# Altium integrated library Analog Devices Data Converters Analog-to-Digital Converters.IntLib: 2404 symbols (part 43 of 346)
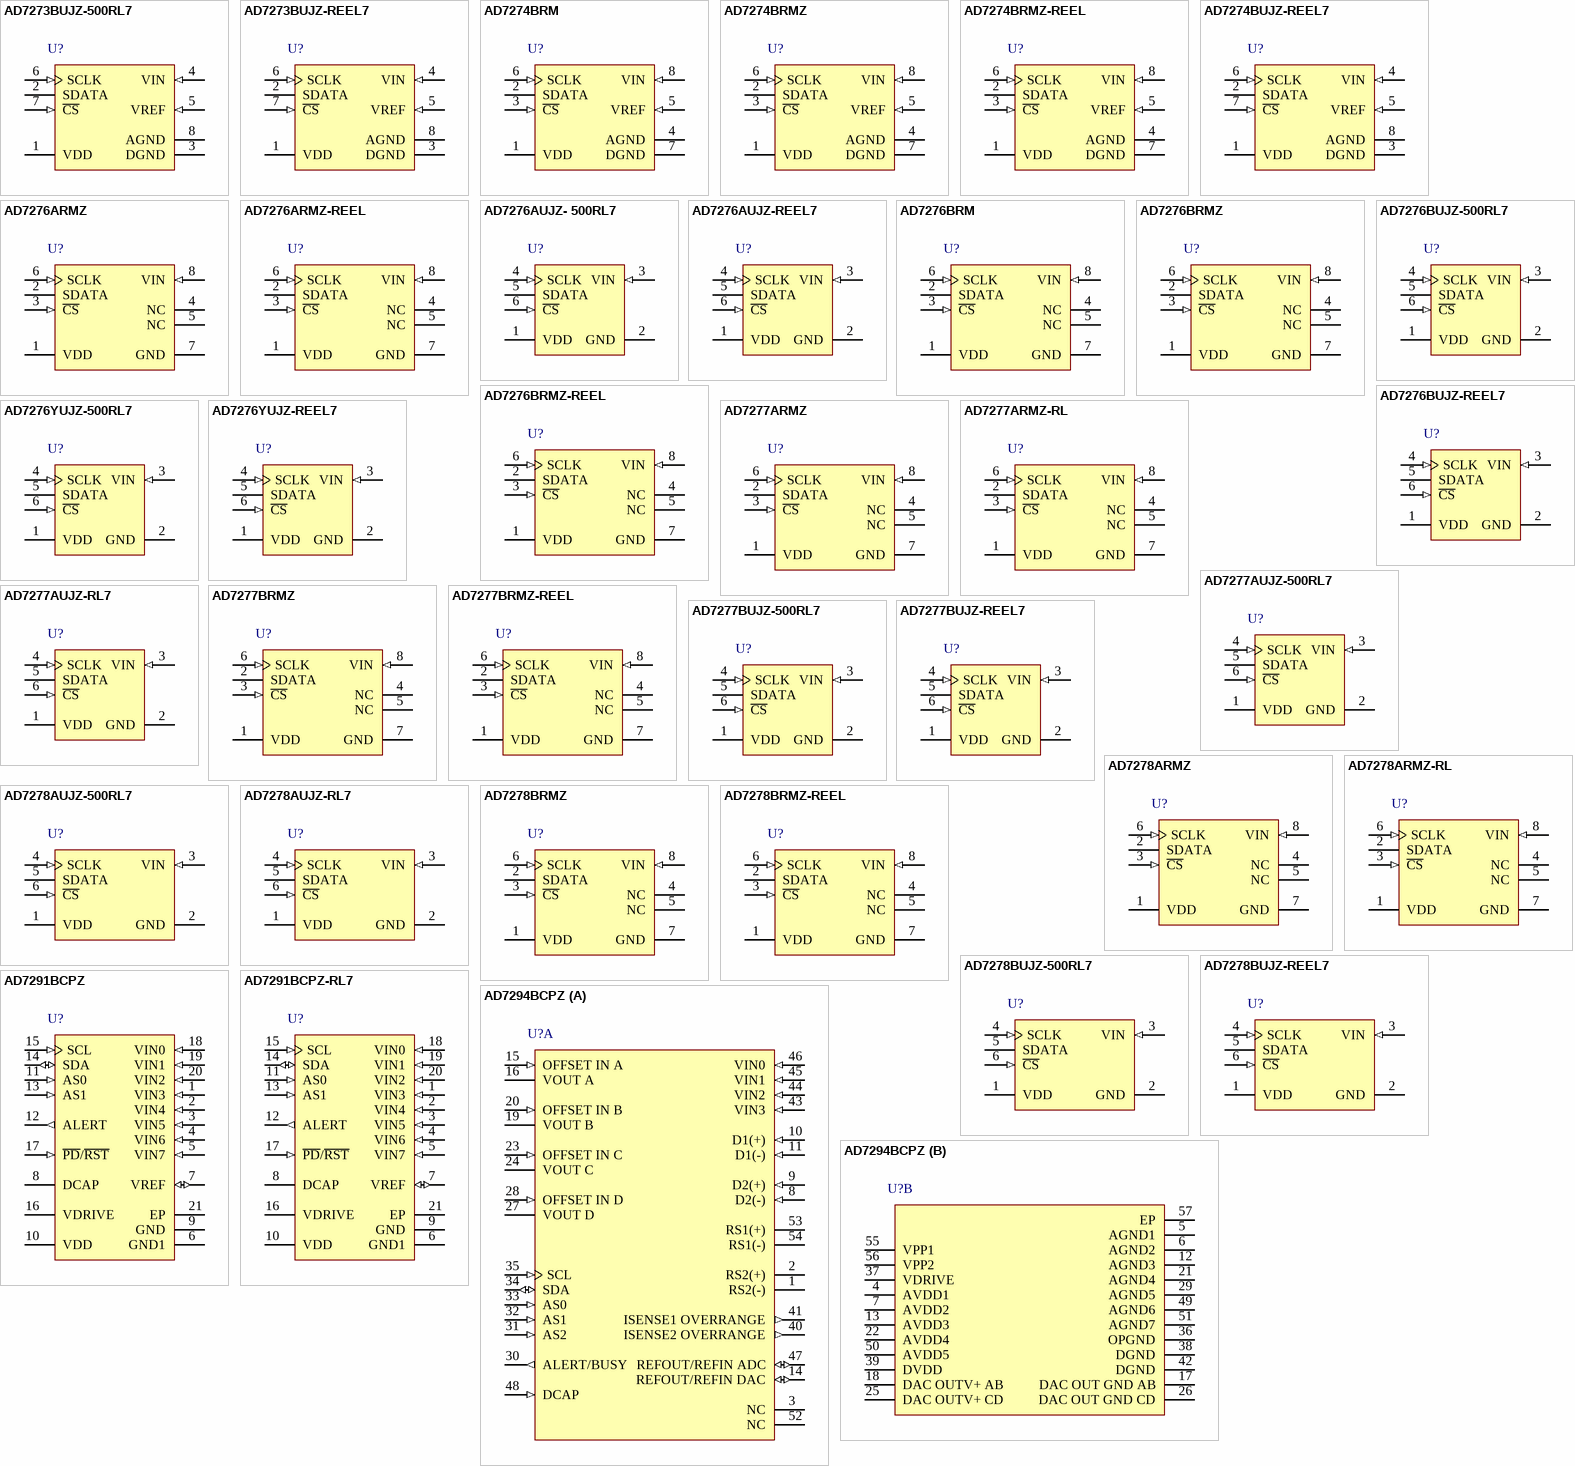
[diagram p179: symbols AD7273BUJZ-500RL7 to AD7294BCPZ]

## AD7273BUJZ-500RL7
designator U?
Single 10-Bit Analog-to-Digital Converter with Serial, SPI Interface, 3MSPS, -40 to +125 degC, UJ-8, Pb-Free, Reel; Generic Part Number: AD7273; Manufacturer: Analog Devices; PartNumber: AD7273BUJZ-500RL7; Resolution (Bits): 10; Channels: 1; Throughput Rate (SPS): 3M; Interface: Ser, SPI; DatasheetVersion: Rev.0; PackageVersion: Dec-2004; PackageReference: UJ-8; PackageDescription: 8-Lead Thin Small Outline Transistor Package [TSOT]; Supplier 1: Digi-Key; Supplier Part Number 1: AD7273BUJZ-500RL7TR-ND; Supplier 2: Digi-Key; Supplier Part Number 2: AD7273BUJZ-500RL7CT-ND; Supplier 3: Digi-Key; Supplier Part Number 3: AD7273BUJZ-500RL7DKR-ND; Supplier 4: Mouser; Supplier Part Number 4: 584-AD7273BUJZ-500R7; RoHS: Y; Packing: Reel; Mounting Technology: Surface Mount; Code_JEDEC: MO-193-BA*; ComponentLink1Description: Manufacturer URL; ComponentLink1URL: http://www.analog.com/en/index.html; ComponentLink2Description: Datasheet; ComponentLink2URL: http://www.analog.com/static/imported-files/data_sheets/AD7273_7274.pdf; ComponentLink3Description: Package Specification; ComponentLink3URL: http://www.analog.com/static/imported-files/packages/PKG_PDF/TSOT(UJ)/UJ_8.pdf; ComponentLink4Description: Product URL; ComponentLink4URL: http://www.analog.com/en/analog-to-digital-converters/ad-converters/ad7273/products/product.html
footprint UJ-8_N (SOP, 8-Leads, Body 2.9x1.6mm, Pitch 0.65mm, IPC Medium Density)
footprint UJ-8_L (SOP, 8-Leads, Body 2.9x1.6mm, Pitch 0.65mm, IPC High Density)
footprint UJ-8_M (SOP, 8-Leads, Body 2.9x1.6mm, Pitch 0.65mm, IPC Low Density)
pins: 1 VDD (power) "Power Supply Input. The VDD range for the AD7273/AD7274 is from 2.35 V to 3.6 V.", 2 SDATA (hiz) "Data Out. Logic output. The conversion result from the AD7273/AD7274 is provided on this output as a serial data stream. The bits are clocked out on the falling edge of the SCLK input. The data stream from the AD7274 (See Datasheet)", 3 DGND (power) "Digital Ground. Ground reference point for all digital circuitry on the AD7273/AD7274. The DGND and AGND voltages ideally should be at the same potential and must not be more than 0.3 V apart, even on a transient basis.", 4 VIN (in) "Analog Input. Single-ended analog input channel. The input range is 0 to VREF.", 5 VREF (in) "Voltage Reference Input. This pin becomes the reference voltage input. An external reference should be applied at this pin. The external reference input range is 1.4 V to VDD. A 10 uF capacitor should be tied between this (See Datasheet)", 6 SCLK (in) "Serial Clock. Logic input. SCLK provides the serial clock for accessing data from the part. This clock input is also used as the clock source for the conversion process of AD7273/AD7274.", 7 ~{CS} (in) "Chip Select. Active low logic input. This input provides the dual function of initiating conversion on the AD7273/AD7274 and framing the serial data transfer.", 8 AGND (power) "Analog Ground. Ground reference point for all circuitry on the AD7273/AD7274. All analog signals and any external reference signal should be referred to this AGND voltage."

## AD7273BUJZ-REEL7
designator U?
Single 10-Bit Analog-to-Digital Converter with Serial, SPI Interface, 3MSPS, -40 to +125 degC, UJ-8, Pb-Free, Reel; Generic Part Number: AD7273; Manufacturer: Analog Devices; PartNumber: AD7273BUJZ-REEL7; Resolution (Bits): 10; Channels: 1; Throughput Rate (SPS): 3M; Interface: Ser, SPI; DatasheetVersion: Rev.0; PackageVersion: Dec-2004; PackageReference: UJ-8; PackageDescription: 8-Lead Thin Small Outline Transistor Package [TSOT]; Supplier 1: Digi-Key; Supplier Part Number 1: AD7273BUJZ-REEL7TR-ND; Supplier 2: Digi-Key; Supplier Part Number 2: AD7273BUJZ-REEL7CT-ND; Supplier 3: Digi-Key; Supplier Part Number 3: AD7273BUJZ-REEL7DKR-ND; Supplier 4: Mouser; Supplier Part Number 4: 584-AD7273BUJZ-R7; RoHS: Y; Packing: Reel; Mounting Technology: Surface Mount; Code_JEDEC: MO-193-BA*; ComponentLink1Description: Manufacturer URL; ComponentLink1URL: http://www.analog.com/en/index.html; ComponentLink2Description: Datasheet; ComponentLink2URL: http://www.analog.com/static/imported-files/data_sheets/AD7273_7274.pdf; ComponentLink3Description: Package Specification; ComponentLink3URL: http://www.analog.com/static/imported-files/packages/PKG_PDF/TSOT(UJ)/UJ_8.pdf; ComponentLink4Description: Product URL; ComponentLink4URL: http://www.analog.com/en/analog-to-digital-converters/ad-converters/ad7273/products/product.html
footprint UJ-8_N (SOP, 8-Leads, Body 2.9x1.6mm, Pitch 0.65mm, IPC Medium Density)
footprint UJ-8_L (SOP, 8-Leads, Body 2.9x1.6mm, Pitch 0.65mm, IPC High Density)
footprint UJ-8_M (SOP, 8-Leads, Body 2.9x1.6mm, Pitch 0.65mm, IPC Low Density)
pins: 1 VDD (power) "Power Supply Input. The VDD range for the AD7273/AD7274 is from 2.35 V to 3.6 V.", 2 SDATA (hiz) "Data Out. Logic output. The conversion result from the AD7273/AD7274 is provided on this output as a serial data stream. The bits are clocked out on the falling edge of the SCLK input. The data stream from the AD7274 (See Datasheet)", 3 DGND (power) "Digital Ground. Ground reference point for all digital circuitry on the AD7273/AD7274. The DGND and AGND voltages ideally should be at the same potential and must not be more than 0.3 V apart, even on a transient basis.", 4 VIN (in) "Analog Input. Single-ended analog input channel. The input range is 0 to VREF.", 5 VREF (in) "Voltage Reference Input. This pin becomes the reference voltage input. An external reference should be applied at this pin. The external reference input range is 1.4 V to VDD. A 10 uF capacitor should be tied between this (See Datasheet)", 6 SCLK (in) "Serial Clock. Logic input. SCLK provides the serial clock for accessing data from the part. This clock input is also used as the clock source for the conversion process of AD7273/AD7274.", 7 ~{CS} (in) "Chip Select. Active low logic input. This input provides the dual function of initiating conversion on the AD7273/AD7274 and framing the serial data transfer.", 8 AGND (power) "Analog Ground. Ground reference point for all circuitry on the AD7273/AD7274. All analog signals and any external reference signal should be referred to this AGND voltage."

## AD7274BRM
designator U?
Single 12-Bit Analog-to-Digital Converter with Serial, SPI Interface, 3MSPS, -40 to +125 degC, RM-8, Tube; Generic Part Number: AD7274; Manufacturer: Analog Devices; PartNumber: AD7274BRM; Resolution (Bits): 12; Channels: 1; Throughput Rate (SPS): 3M; Interface: Ser, SPI; DatasheetVersion: Rev.0; PackageVersion: Aug-2005; PackageReference: RM-8; PackageDescription: 8-Lead Mini Small Outline Package [MSOP]; Supplier 1: Digi-Key; Supplier Part Number 1: AD7274BRM-ND; Supplier 2: Mouser; Supplier Part Number 2: 584-AD7274BRM; RoHS: N; Packing: Tube; Mounting Technology: Surface Mount; Code_JEDEC: MO-187-AA; ComponentLink1Description: Manufacturer URL; ComponentLink1URL: http://www.analog.com/en/index.html; ComponentLink2Description: Datasheet; ComponentLink2URL: http://www.analog.com/static/imported-files/data_sheets/AD7273_7274.pdf; ComponentLink3Description: Package Specification; ComponentLink3URL: http://www.analog.com/static/imported-files/packages/PKG_PDF/MSOP%28RM%29/RM_8.pdf; ComponentLink4Description: Product URL; ComponentLink4URL: http://www.analog.com/en/analog-to-digital-converters/ad-converters/ad7274/products/product.html
footprint RM-8_N (TSOP, 8-Leads, Body 3x3mm, Pitch 0.65mm, IPC Medium Density)
footprint RM-8_L (TSOP, 8-Leads, Body 3x3mm, Pitch 0.65mm, IPC High Density)
footprint RM-8_M (TSOP, 8-Leads, Body 3x3mm, Pitch 0.65mm, IPC Low Density)
pins: 1 VDD (power) "Power Supply Input. The VDD range for the AD7273/AD7274 is from 2.35 V to 3.6 V.", 2 SDATA (hiz) "Data Out. Logic output. The conversion result from the AD7273/AD7274 is provided on this output as a serial data stream. The bits are clocked out on the falling edge of the SCLK input. The data stream from the AD7274 (See Datasheet)", 3 ~{CS} (in) "Chip Select. Active low logic input. This input provides the dual function of initiating conversion on the AD7273/AD7274 and framing the serial data transfer.", 4 AGND (power) "Analog Ground. Ground reference point for all circuitry on the AD7273/AD7274. All analog signals and any external reference signal should be referred to this AGND voltage.", 5 VREF (in) "Voltage Reference Input. This pin becomes the reference voltage input. An external reference should be applied at this pin. The external reference input range is 1.4 V to VDD. A 10 uF capacitor should be tied between this (See Datasheet)", 6 SCLK (in) "Serial Clock. Logic input. SCLK provides the serial clock for accessing data from the part. This clock input is also used as the clock source for the conversion process of AD7273/AD7274.", 7 DGND (power) "Digital Ground. Ground reference point for all digital circuitry on the AD7273/AD7274. The DGND and AGND voltages ideally should be at the same potential and must not be more than 0.3 V apart, even on a transient basis.", 8 VIN (in) "Analog Input. Single-ended analog input channel. The input range is 0 to VREF."

## AD7274BRMZ
designator U?
Single 12-Bit Analog-to-Digital Converter with Serial, SPI Interface, 3MSPS, -40 to +125 degC, RM-8, Pb-Free, Tube; Generic Part Number: AD7274; Manufacturer: Analog Devices; PartNumber: AD7274BRMZ; Resolution (Bits): 12; Channels: 1; Throughput Rate (SPS): 3M; Interface: Ser, SPI; DatasheetVersion: Rev.0; PackageVersion: Aug-2005; PackageReference: RM-8; PackageDescription: 8-Lead Mini Small Outline Package [MSOP]; Supplier 1: Digi-Key; Supplier Part Number 1: AD7274BRMZ-ND; Supplier 2: Newark; Supplier Part Number 2: 59K4667; Supplier 3: Mouser; Supplier Part Number 3: 584-AD7274BRMZ; RoHS: Y; Packing: Tube; Mounting Technology: Surface Mount; Code_JEDEC: MO-187-AA; ComponentLink1Description: Manufacturer URL; ComponentLink1URL: http://www.analog.com/en/index.html; ComponentLink2Description: Datasheet; ComponentLink2URL: http://www.analog.com/static/imported-files/data_sheets/AD7273_7274.pdf; ComponentLink3Description: Package Specification; ComponentLink3URL: http://www.analog.com/static/imported-files/packages/PKG_PDF/MSOP%28RM%29/RM_8.pdf; ComponentLink4Description: Product URL; ComponentLink4URL: http://www.analog.com/en/analog-to-digital-converters/ad-converters/ad7274/products/product.html
footprint RM-8_N (TSOP, 8-Leads, Body 3x3mm, Pitch 0.65mm, IPC Medium Density)
footprint RM-8_L (TSOP, 8-Leads, Body 3x3mm, Pitch 0.65mm, IPC High Density)
footprint RM-8_M (TSOP, 8-Leads, Body 3x3mm, Pitch 0.65mm, IPC Low Density)
pins: 1 VDD (power) "Power Supply Input. The VDD range for the AD7273/AD7274 is from 2.35 V to 3.6 V.", 2 SDATA (hiz) "Data Out. Logic output. The conversion result from the AD7273/AD7274 is provided on this output as a serial data stream. The bits are clocked out on the falling edge of the SCLK input. The data stream from the AD7274 (See Datasheet)", 3 ~{CS} (in) "Chip Select. Active low logic input. This input provides the dual function of initiating conversion on the AD7273/AD7274 and framing the serial data transfer.", 4 AGND (power) "Analog Ground. Ground reference point for all circuitry on the AD7273/AD7274. All analog signals and any external reference signal should be referred to this AGND voltage.", 5 VREF (in) "Voltage Reference Input. This pin becomes the reference voltage input. An external reference should be applied at this pin. The external reference input range is 1.4 V to VDD. A 10 uF capacitor should be tied between this (See Datasheet)", 6 SCLK (in) "Serial Clock. Logic input. SCLK provides the serial clock for accessing data from the part. This clock input is also used as the clock source for the conversion process of AD7273/AD7274.", 7 DGND (power) "Digital Ground. Ground reference point for all digital circuitry on the AD7273/AD7274. The DGND and AGND voltages ideally should be at the same potential and must not be more than 0.3 V apart, even on a transient basis.", 8 VIN (in) "Analog Input. Single-ended analog input channel. The input range is 0 to VREF."

## AD7274BRMZ-REEL
designator U?
Single 12-Bit Analog-to-Digital Converter with Serial, SPI Interface, 3MSPS, -40 to +125 degC, RM-8, Pb-Free, Reel; Generic Part Number: AD7274; Manufacturer: Analog Devices; PartNumber: AD7274BRMZ-REEL; Resolution (Bits): 12; Channels: 1; Throughput Rate (SPS): 3M; Interface: Ser, SPI; DatasheetVersion: Rev.0; PackageVersion: Aug-2005; PackageReference: RM-8; PackageDescription: 8-Lead Mini Small Outline Package [MSOP]; Supplier 1: Digi-Key; Supplier Part Number 1: AD7274BRMZ-REEL-ND; Supplier 2: Mouser; Supplier Part Number 2: 584-AD7274BRMZ-R; RoHS: Y; Packing: Reel; Mounting Technology: Surface Mount; Code_JEDEC: MO-187-AA; ComponentLink1Description: Manufacturer URL; ComponentLink1URL: http://www.analog.com/en/index.html; ComponentLink2Description: Datasheet; ComponentLink2URL: http://www.analog.com/static/imported-files/data_sheets/AD7273_7274.pdf; ComponentLink3Description: Package Specification; ComponentLink3URL: http://www.analog.com/static/imported-files/packages/PKG_PDF/MSOP%28RM%29/RM_8.pdf; ComponentLink4Description: Product URL; ComponentLink4URL: http://www.analog.com/en/analog-to-digital-converters/ad-converters/ad7274/products/product.html
footprint RM-8_N (TSOP, 8-Leads, Body 3x3mm, Pitch 0.65mm, IPC Medium Density)
footprint RM-8_L (TSOP, 8-Leads, Body 3x3mm, Pitch 0.65mm, IPC High Density)
footprint RM-8_M (TSOP, 8-Leads, Body 3x3mm, Pitch 0.65mm, IPC Low Density)
pins: 1 VDD (power) "Power Supply Input. The VDD range for the AD7273/AD7274 is from 2.35 V to 3.6 V.", 2 SDATA (hiz) "Data Out. Logic output. The conversion result from the AD7273/AD7274 is provided on this output as a serial data stream. The bits are clocked out on the falling edge of the SCLK input. The data stream from the AD7274 (See Datasheet)", 3 ~{CS} (in) "Chip Select. Active low logic input. This input provides the dual function of initiating conversion on the AD7273/AD7274 and framing the serial data transfer.", 4 AGND (power) "Analog Ground. Ground reference point for all circuitry on the AD7273/AD7274. All analog signals and any external reference signal should be referred to this AGND voltage.", 5 VREF (in) "Voltage Reference Input. This pin becomes the reference voltage input. An external reference should be applied at this pin. The external reference input range is 1.4 V to VDD. A 10 uF capacitor should be tied between this (See Datasheet)", 6 SCLK (in) "Serial Clock. Logic input. SCLK provides the serial clock for accessing data from the part. This clock input is also used as the clock source for the conversion process of AD7273/AD7274.", 7 DGND (power) "Digital Ground. Ground reference point for all digital circuitry on the AD7273/AD7274. The DGND and AGND voltages ideally should be at the same potential and must not be more than 0.3 V apart, even on a transient basis.", 8 VIN (in) "Analog Input. Single-ended analog input channel. The input range is 0 to VREF."

## AD7274BUJZ-REEL7
designator U?
Single 12-Bit Analog-to-Digital Converter with Serial, SPI Interface, 3MSPS, -40 to +125 degC, UJ-8, Pb-Free, Reel; Generic Part Number: AD7274; Manufacturer: Analog Devices; PartNumber: AD7274BUJZ-REEL7; Resolution (Bits): 12; Channels: 1; Throughput Rate (SPS): 3M; Interface: Ser, SPI; DatasheetVersion: Rev.0; PackageVersion: Dec-2004; PackageReference: UJ-8; PackageDescription: 8-Lead Thin Small Outline Transistor Package [TSOT]; Supplier 1: Digi-Key; Supplier Part Number 1: AD7274BUJZ-REEL7TR-ND; Supplier 2: Digi-Key; Supplier Part Number 2: AD7274BUJZ-REEL7CT-ND; Supplier 3: Digi-Key; Supplier Part Number 3: AD7274BUJZ-REEL7DKR-ND; Supplier 4: Mouser; Supplier Part Number 4: 584-AD7274BUJZ-R7; RoHS: Y; Packing: Reel; Mounting Technology: Surface Mount; Code_JEDEC: MO-193-BA*; ComponentLink1Description: Manufacturer URL; ComponentLink1URL: http://www.analog.com/en/index.html; ComponentLink2Description: Datasheet; ComponentLink2URL: http://www.analog.com/static/imported-files/data_sheets/AD7273_7274.pdf; ComponentLink3Description: Package Specification; ComponentLink3URL: http://www.analog.com/static/imported-files/packages/PKG_PDF/TSOT(UJ)/UJ_8.pdf; ComponentLink4Description: Product URL; ComponentLink4URL: http://www.analog.com/en/analog-to-digital-converters/ad-converters/ad7274/products/product.html
footprint UJ-8_N (SOP, 8-Leads, Body 2.9x1.6mm, Pitch 0.65mm, IPC Medium Density)
footprint UJ-8_L (SOP, 8-Leads, Body 2.9x1.6mm, Pitch 0.65mm, IPC High Density)
footprint UJ-8_M (SOP, 8-Leads, Body 2.9x1.6mm, Pitch 0.65mm, IPC Low Density)
pins: 1 VDD (power) "Power Supply Input. The VDD range for the AD7273/AD7274 is from 2.35 V to 3.6 V.", 2 SDATA (hiz) "Data Out. Logic output. The conversion result from the AD7273/AD7274 is provided on this output as a serial data stream. The bits are clocked out on the falling edge of the SCLK input. The data stream from the AD7274 (See Datasheet)", 3 DGND (power) "Digital Ground. Ground reference point for all digital circuitry on the AD7273/AD7274. The DGND and AGND voltages ideally should be at the same potential and must not be more than 0.3 V apart, even on a transient basis.", 4 VIN (in) "Analog Input. Single-ended analog input channel. The input range is 0 to VREF.", 5 VREF (in) "Voltage Reference Input. This pin becomes the reference voltage input. An external reference should be applied at this pin. The external reference input range is 1.4 V to VDD. A 10 uF capacitor should be tied between this (See Datasheet)", 6 SCLK (in) "Serial Clock. Logic input. SCLK provides the serial clock for accessing data from the part. This clock input is also used as the clock source for the conversion process of AD7273/AD7274.", 7 ~{CS} (in) "Chip Select. Active low logic input. This input provides the dual function of initiating conversion on the AD7273/AD7274 and framing the serial data transfer.", 8 AGND (power) "Analog Ground. Ground reference point for all circuitry on the AD7273/AD7274. All analog signals and any external reference signal should be referred to this AGND voltage."

## AD7276ARMZ
designator U?
Single 12-Bit Analog-to-Digital Converter with Serial, SPI Interface, 3MSPS, -40 to +125 degC, RM-8, Pb-Free, Tube; Generic Part Number: AD7276; Manufacturer: Analog Devices; PartNumber: AD7276ARMZ; Resolution (Bits): 12; Channels: 1; Throughput Rate (SPS): 3M; Interface: Ser, SPI; DatasheetVersion: Rev.C; PackageVersion: Aug-2005; PackageReference: RM-8; PackageDescription: 8-Lead Mini Small Outline Package [MSOP]; Supplier 1: Digi-Key; Supplier Part Number 1: AD7276ARMZ-ND; Supplier 2: Mouser; Supplier Part Number 2: 584-AD7276ARMZ; RoHS: Y; Packing: Tube; Mounting Technology: Surface Mount; Code_JEDEC: MO-187-AA; ComponentLink1Description: Manufacturer URL; ComponentLink1URL: http://www.analog.com/en/index.html; ComponentLink2Description: Datasheet; ComponentLink2URL: http://www.analog.com/static/imported-files/data_sheets/AD7276_7277_7278.pdf; ComponentLink3Description: Package Specification; ComponentLink3URL: http://www.analog.com/static/imported-files/packages/PKG_PDF/MSOP%28RM%29/RM_8.pdf; ComponentLink4Description: Product URL; ComponentLink4URL: http://www.analog.com/en/analog-to-digital-converters/ad-converters/ad7276/products/product.html
footprint RM-8_N (TSOP, 8-Leads, Body 3x3mm, Pitch 0.65mm, IPC Medium Density)
footprint RM-8_L (TSOP, 8-Leads, Body 3x3mm, Pitch 0.65mm, IPC High Density)
footprint RM-8_M (TSOP, 8-Leads, Body 3x3mm, Pitch 0.65mm, IPC Low Density)
pins: 1 VDD (power) "Power Supply Input. The VDD range for the AD7276/AD7277/AD7278 is 2.35 V to 3.6 V.", 2 SDATA (hiz) "Data Out. Logic output. The conversion result from the AD7276/AD7277/AD7278 is provided on this output as a serial data stream. The bits are clocked out on the falling edge of the SCLK input. The data stream from the AD7276 (See Datasheet)", 3 ~{CS} (in) "Chip Select. Active low logic input. This input provides the dual function of initiating conversion on the AD7276/AD7277/AD7278 and framing the serial data transfer.", 4 NC "No Connect.", 5 NC "No Connect.", 6 SCLK (in) "Serial Clock. Logic input. SCLK provides the serial clock for accessing data from the part. This clock input is also used as the clock source for the conversion process of the AD7276/AD7277/AD7278.", 7 GND (power) "Analog Ground. Ground reference point for all circuitry on the AD7276/AD7277/AD7278. All analog input signals should be referred to this GND voltage.", 8 VIN (in) "Analog Input. Single-ended analog input channel. The input range is 0 V to VDD."

## AD7276ARMZ-REEL
designator U?
Single 12-Bit Analog-to-Digital Converter with Serial, SPI Interface, 3MSPS, -40 to +125 degC, RM-8, Pb-Free, Reel; Generic Part Number: AD7276; Manufacturer: Analog Devices; PartNumber: AD7276ARMZ-REEL; Resolution (Bits): 12; Channels: 1; Throughput Rate (SPS): 3M; Interface: Ser, SPI; DatasheetVersion: Rev.C; PackageVersion: Aug-2005; PackageReference: RM-8; PackageDescription: 8-Lead Mini Small Outline Package [MSOP]; Supplier 1: Digi-Key; Supplier Part Number 1: AD7276ARMZ-REEL-ND; Supplier 2: Mouser; Supplier Part Number 2: 584-AD7276ARMZ-R; RoHS: Y; Packing: Reel; Mounting Technology: Surface Mount; Code_JEDEC: MO-187-AA; ComponentLink1Description: Manufacturer URL; ComponentLink1URL: http://www.analog.com/en/index.html; ComponentLink2Description: Datasheet; ComponentLink2URL: http://www.analog.com/static/imported-files/data_sheets/AD7276_7277_7278.pdf; ComponentLink3Description: Package Specification; ComponentLink3URL: http://www.analog.com/static/imported-files/packages/PKG_PDF/MSOP%28RM%29/RM_8.pdf; ComponentLink4Description: Product URL; ComponentLink4URL: http://www.analog.com/en/analog-to-digital-converters/ad-converters/ad7276/products/product.html
footprint RM-8_N (TSOP, 8-Leads, Body 3x3mm, Pitch 0.65mm, IPC Medium Density)
footprint RM-8_L (TSOP, 8-Leads, Body 3x3mm, Pitch 0.65mm, IPC High Density)
footprint RM-8_M (TSOP, 8-Leads, Body 3x3mm, Pitch 0.65mm, IPC Low Density)
pins: 1 VDD (power) "Power Supply Input. The VDD range for the AD7276/AD7277/AD7278 is 2.35 V to 3.6 V.", 2 SDATA (hiz) "Data Out. Logic output. The conversion result from the AD7276/AD7277/AD7278 is provided on this output as a serial data stream. The bits are clocked out on the falling edge of the SCLK input. The data stream from the AD7276 (See Datasheet)", 3 ~{CS} (in) "Chip Select. Active low logic input. This input provides the dual function of initiating conversion on the AD7276/AD7277/AD7278 and framing the serial data transfer.", 4 NC "No Connect.", 5 NC "No Connect.", 6 SCLK (in) "Serial Clock. Logic input. SCLK provides the serial clock for accessing data from the part. This clock input is also used as the clock source for the conversion process of the AD7276/AD7277/AD7278.", 7 GND (power) "Analog Ground. Ground reference point for all circuitry on the AD7276/AD7277/AD7278. All analog input signals should be referred to this GND voltage.", 8 VIN (in) "Analog Input. Single-ended analog input channel. The input range is 0 V to VDD."

## AD7276AUJZ- 500RL7
designator U?
Single 12-Bit Analog-to-Digital Converter with Serial, SPI Interface, 3MSPS, -40 to +125 degC, UJ-6, Pb-Free, Reel; Generic Part Number: AD7276; Manufacturer: Analog Devices; PartNumber: AD7276AUJZ- 500RL7; Resolution (Bits): 12; Channels: 1; Throughput Rate (SPS): 3M; Interface: Ser, SPI; DatasheetVersion: Rev.C; PackageVersion: Dec-2004; PackageReference: UJ-6; PackageDescription: 6-Lead Thin Small Outline Transistor Package [TSOT]; RoHS: Y; Packing: Reel; Mounting Technology: Surface Mount; Code_JEDEC: MO-193-AA*; ComponentLink1Description: Manufacturer URL; ComponentLink1URL: http://www.analog.com/en/index.html; ComponentLink2Description: Datasheet; ComponentLink2URL: http://www.analog.com/static/imported-files/data_sheets/AD7276_7277_7278.pdf; ComponentLink3Description: Package Specification; ComponentLink3URL: http://www.analog.com/static/imported-files/packages/PKG_PDF/TSOT(UJ)/UJ_6.pdf; ComponentLink4Description: Product URL; ComponentLink4URL: http://www.analog.com/en/analog-to-digital-converters/ad-converters/ad7276/products/product.html
footprint UJ-6_N (SOT23, 6-Leads, Body 2.9x1.6mm, Pitch 0.95mm, Lead Span 2.8mm, IPC Medium Density)
footprint UJ-6_L (SOT23, 6-Leads, Body 2.9x1.6mm, Pitch 0.95mm, Lead Span 2.8mm, IPC High Density)
footprint UJ-6_M (SOT23, 6-Leads, Body 2.9x1.6mm, Pitch 0.95mm, Lead Span 2.8mm, IPC Low Density)
pins: 1 VDD (power) "Power Supply Input. The VDD range for the AD7276/AD7277/AD7278 is 2.35 V to 3.6 V.", 2 GND (power) "Analog Ground. Ground reference point for all circuitry on the AD7276/AD7277/AD7278. All analog input signals should be referred to this GND voltage.", 3 VIN (in) "Analog Input. Single-ended analog input channel. The input range is 0 V to VDD.", 4 SCLK (in) "Serial Clock. Logic input. SCLK provides the serial clock for accessing data from the part. This clock input is also used as the clock source for the conversion process of the AD7276/AD7277/AD7278.", 5 SDATA (hiz) "Data Out. Logic output. The conversion result from the AD7276/AD7277/AD7278 is provided on this output as a serial data stream. The bits are clocked out on the falling edge of the SCLK input. The data stream from the AD7276 (See Datasheet)", 6 ~{CS} (in) "Chip Select. Active low logic input. This input provides the dual function of initiating conversion on the AD7276/AD7277/AD7278 and framing the serial data transfer."

## AD7276AUJZ-REEL7
designator U?
Single 12-Bit Analog-to-Digital Converter with Serial, SPI Interface, 3MSPS, -40 to +125 degC, UJ-6, Pb-Free, Reel; Generic Part Number: AD7276; Manufacturer: Analog Devices; PartNumber: AD7276AUJZ-REEL7; Resolution (Bits): 12; Channels: 1; Throughput Rate (SPS): 3M; Interface: Ser, SPI; DatasheetVersion: Rev.C; PackageVersion: Dec-2004; PackageReference: UJ-6; PackageDescription: 6-Lead Thin Small Outline Transistor Package [TSOT]; Supplier 1: Digi-Key; Supplier Part Number 1: AD7276AUJZ-REEL7TR-ND; Supplier 2: Digi-Key; Supplier Part Number 2: AD7276AUJZ-REEL7CT-ND; Supplier 3: Digi-Key; Supplier Part Number 3: AD7276AUJZ-REEL7DKR-ND; Supplier 4: Newark; Supplier Part Number 4: 63R9820; Supplier 5: Mouser; Supplier Part Number 5: 584-AD7276AUJZ-R7; RoHS: Y; Packing: Reel; Mounting Technology: Surface Mount; Code_JEDEC: MO-193-AA*; ComponentLink1Description: Manufacturer URL; ComponentLink1URL: http://www.analog.com/en/index.html; ComponentLink2Description: Datasheet; ComponentLink2URL: http://www.analog.com/static/imported-files/data_sheets/AD7276_7277_7278.pdf; ComponentLink3Description: Package Specification; ComponentLink3URL: http://www.analog.com/static/imported-files/packages/PKG_PDF/TSOT(UJ)/UJ_6.pdf; ComponentLink4Description: Product URL; ComponentLink4URL: http://www.analog.com/en/analog-to-digital-converters/ad-converters/ad7276/products/product.html
footprint UJ-6_N (SOT23, 6-Leads, Body 2.9x1.6mm, Pitch 0.95mm, Lead Span 2.8mm, IPC Medium Density)
footprint UJ-6_L (SOT23, 6-Leads, Body 2.9x1.6mm, Pitch 0.95mm, Lead Span 2.8mm, IPC High Density)
footprint UJ-6_M (SOT23, 6-Leads, Body 2.9x1.6mm, Pitch 0.95mm, Lead Span 2.8mm, IPC Low Density)
pins: 1 VDD (power) "Power Supply Input. The VDD range for the AD7276/AD7277/AD7278 is 2.35 V to 3.6 V.", 2 GND (power) "Analog Ground. Ground reference point for all circuitry on the AD7276/AD7277/AD7278. All analog input signals should be referred to this GND voltage.", 3 VIN (in) "Analog Input. Single-ended analog input channel. The input range is 0 V to VDD.", 4 SCLK (in) "Serial Clock. Logic input. SCLK provides the serial clock for accessing data from the part. This clock input is also used as the clock source for the conversion process of the AD7276/AD7277/AD7278.", 5 SDATA (hiz) "Data Out. Logic output. The conversion result from the AD7276/AD7277/AD7278 is provided on this output as a serial data stream. The bits are clocked out on the falling edge of the SCLK input. The data stream from the AD7276 (See Datasheet)", 6 ~{CS} (in) "Chip Select. Active low logic input. This input provides the dual function of initiating conversion on the AD7276/AD7277/AD7278 and framing the serial data transfer."

## AD7276BRM
designator U?
Single 12-Bit Analog-to-Digital Converter with Serial, SPI Interface, 3MSPS, -40 to +125 degC, RM-8, Tube; Generic Part Number: AD7276; Manufacturer: Analog Devices; PartNumber: AD7276BRM; Resolution (Bits): 12; Channels: 1; Throughput Rate (SPS): 3M; Interface: Ser, SPI; DatasheetVersion: Rev.C; PackageVersion: Aug-2005; PackageReference: RM-8; PackageDescription: 8-Lead Mini Small Outline Package [MSOP]; Supplier 1: Digi-Key; Supplier Part Number 1: AD7276BRM-ND; Supplier 2: Mouser; Supplier Part Number 2: 584-AD7276BRM; RoHS: N; Packing: Tube; Mounting Technology: Surface Mount; Code_JEDEC: MO-187-AA; ComponentLink1Description: Manufacturer URL; ComponentLink1URL: http://www.analog.com/en/index.html; ComponentLink2Description: Datasheet; ComponentLink2URL: http://www.analog.com/static/imported-files/data_sheets/AD7276_7277_7278.pdf; ComponentLink3Description: Package Specification; ComponentLink3URL: http://www.analog.com/static/imported-files/packages/PKG_PDF/MSOP%28RM%29/RM_8.pdf; ComponentLink4Description: Product URL; ComponentLink4URL: http://www.analog.com/en/analog-to-digital-converters/ad-converters/ad7276/products/product.html
footprint RM-8_N (TSOP, 8-Leads, Body 3x3mm, Pitch 0.65mm, IPC Medium Density)
footprint RM-8_L (TSOP, 8-Leads, Body 3x3mm, Pitch 0.65mm, IPC High Density)
footprint RM-8_M (TSOP, 8-Leads, Body 3x3mm, Pitch 0.65mm, IPC Low Density)
pins: 1 VDD (power) "Power Supply Input. The VDD range for the AD7276/AD7277/AD7278 is 2.35 V to 3.6 V.", 2 SDATA (hiz) "Data Out. Logic output. The conversion result from the AD7276/AD7277/AD7278 is provided on this output as a serial data stream. The bits are clocked out on the falling edge of the SCLK input. The data stream from the AD7276 (See Datasheet)", 3 ~{CS} (in) "Chip Select. Active low logic input. This input provides the dual function of initiating conversion on the AD7276/AD7277/AD7278 and framing the serial data transfer.", 4 NC "No Connect.", 5 NC "No Connect.", 6 SCLK (in) "Serial Clock. Logic input. SCLK provides the serial clock for accessing data from the part. This clock input is also used as the clock source for the conversion process of the AD7276/AD7277/AD7278.", 7 GND (power) "Analog Ground. Ground reference point for all circuitry on the AD7276/AD7277/AD7278. All analog input signals should be referred to this GND voltage.", 8 VIN (in) "Analog Input. Single-ended analog input channel. The input range is 0 V to VDD."

## AD7276BRMZ
designator U?
Single 12-Bit Analog-to-Digital Converter with Serial, SPI Interface, 3MSPS, -40 to +125 degC, RM-8, Pb-Free, Tube; Generic Part Number: AD7276; Manufacturer: Analog Devices; PartNumber: AD7276BRMZ; Resolution (Bits): 12; Channels: 1; Throughput Rate (SPS): 3M; Interface: Ser, SPI; DatasheetVersion: Rev.C; PackageVersion: Aug-2005; PackageReference: RM-8; PackageDescription: 8-Lead Mini Small Outline Package [MSOP]; Supplier 1: Digi-Key; Supplier Part Number 1: AD7276BRMZ-ND; Supplier 2: Farnell; Supplier Part Number 2: 1117902; Supplier 3: Newark; Supplier Part Number 3: 59K4672; Supplier 4: Mouser; Supplier Part Number 4: 584-AD7276BRMZ; RoHS: Y; Packing: Tube; Mounting Technology: Surface Mount; Code_JEDEC: MO-187-AA; ComponentLink1Description: Manufacturer URL; ComponentLink1URL: http://www.analog.com/en/index.html; ComponentLink2Description: Datasheet; ComponentLink2URL: http://www.analog.com/static/imported-files/data_sheets/AD7276_7277_7278.pdf; ComponentLink3Description: Package Specification; ComponentLink3URL: http://www.analog.com/static/imported-files/packages/PKG_PDF/MSOP%28RM%29/RM_8.pdf; ComponentLink4Description: Product URL; ComponentLink4URL: http://www.analog.com/en/analog-to-digital-converters/ad-converters/ad7276/products/product.html
footprint RM-8_N (TSOP, 8-Leads, Body 3x3mm, Pitch 0.65mm, IPC Medium Density)
footprint RM-8_L (TSOP, 8-Leads, Body 3x3mm, Pitch 0.65mm, IPC High Density)
footprint RM-8_M (TSOP, 8-Leads, Body 3x3mm, Pitch 0.65mm, IPC Low Density)
pins: 1 VDD (power) "Power Supply Input. The VDD range for the AD7276/AD7277/AD7278 is 2.35 V to 3.6 V.", 2 SDATA (hiz) "Data Out. Logic output. The conversion result from the AD7276/AD7277/AD7278 is provided on this output as a serial data stream. The bits are clocked out on the falling edge of the SCLK input. The data stream from the AD7276 (See Datasheet)", 3 ~{CS} (in) "Chip Select. Active low logic input. This input provides the dual function of initiating conversion on the AD7276/AD7277/AD7278 and framing the serial data transfer.", 4 NC "No Connect.", 5 NC "No Connect.", 6 SCLK (in) "Serial Clock. Logic input. SCLK provides the serial clock for accessing data from the part. This clock input is also used as the clock source for the conversion process of the AD7276/AD7277/AD7278.", 7 GND (power) "Analog Ground. Ground reference point for all circuitry on the AD7276/AD7277/AD7278. All analog input signals should be referred to this GND voltage.", 8 VIN (in) "Analog Input. Single-ended analog input channel. The input range is 0 V to VDD."

## AD7276BRMZ-REEL
designator U?
Single 12-Bit Analog-to-Digital Converter with Serial, SPI Interface, 3MSPS, -40 to +125 degC, RM-8, Pb-Free, Reel; Generic Part Number: AD7276; Manufacturer: Analog Devices; PartNumber: AD7276BRMZ-REEL; Resolution (Bits): 12; Channels: 1; Throughput Rate (SPS): 3M; Interface: Ser, SPI; DatasheetVersion: Rev.C; PackageVersion: Aug-2005; PackageReference: RM-8; PackageDescription: 8-Lead Mini Small Outline Package [MSOP]; Supplier 1: Digi-Key; Supplier Part Number 1: AD7276BRMZ-REEL-ND; Supplier 2: Mouser; Supplier Part Number 2: 584-AD7276BRMZ-R; RoHS: Y; Packing: Reel; Mounting Technology: Surface Mount; Code_JEDEC: MO-187-AA; ComponentLink1Description: Manufacturer URL; ComponentLink1URL: http://www.analog.com/en/index.html; ComponentLink2Description: Datasheet; ComponentLink2URL: http://www.analog.com/static/imported-files/data_sheets/AD7276_7277_7278.pdf; ComponentLink3Description: Package Specification; ComponentLink3URL: http://www.analog.com/static/imported-files/packages/PKG_PDF/MSOP%28RM%29/RM_8.pdf; ComponentLink4Description: Product URL; ComponentLink4URL: http://www.analog.com/en/analog-to-digital-converters/ad-converters/ad7276/products/product.html
footprint RM-8_N (TSOP, 8-Leads, Body 3x3mm, Pitch 0.65mm, IPC Medium Density)
footprint RM-8_L (TSOP, 8-Leads, Body 3x3mm, Pitch 0.65mm, IPC High Density)
footprint RM-8_M (TSOP, 8-Leads, Body 3x3mm, Pitch 0.65mm, IPC Low Density)
pins: 1 VDD (power) "Power Supply Input. The VDD range for the AD7276/AD7277/AD7278 is 2.35 V to 3.6 V.", 2 SDATA (hiz) "Data Out. Logic output. The conversion result from the AD7276/AD7277/AD7278 is provided on this output as a serial data stream. The bits are clocked out on the falling edge of the SCLK input. The data stream from the AD7276 (See Datasheet)", 3 ~{CS} (in) "Chip Select. Active low logic input. This input provides the dual function of initiating conversion on the AD7276/AD7277/AD7278 and framing the serial data transfer.", 4 NC "No Connect.", 5 NC "No Connect.", 6 SCLK (in) "Serial Clock. Logic input. SCLK provides the serial clock for accessing data from the part. This clock input is also used as the clock source for the conversion process of the AD7276/AD7277/AD7278.", 7 GND (power) "Analog Ground. Ground reference point for all circuitry on the AD7276/AD7277/AD7278. All analog input signals should be referred to this GND voltage.", 8 VIN (in) "Analog Input. Single-ended analog input channel. The input range is 0 V to VDD."

## AD7276BUJZ-500RL7
designator U?
Single 12-Bit Analog-to-Digital Converter with Serial, SPI Interface, 3MSPS, -40 to +125 degC, UJ-6, Pb-Free, Reel; Generic Part Number: AD7276; Manufacturer: Analog Devices; PartNumber: AD7276BUJZ-500RL7; Resolution (Bits): 12; Channels: 1; Throughput Rate (SPS): 3M; Interface: Ser, SPI; DatasheetVersion: Rev.C; PackageVersion: Dec-2004; PackageReference: UJ-6; PackageDescription: 6-Lead Thin Small Outline Transistor Package [TSOT]; Supplier 1: Digi-Key; Supplier Part Number 1: AD7276BUJZ-500RL7TR-ND; Supplier 2: Digi-Key; Supplier Part Number 2: AD7276BUJZ-500RL7CT-ND; Supplier 3: Digi-Key; Supplier Part Number 3: AD7276BUJZ-500RL7DKR-ND; Supplier 4: Newark; Supplier Part Number 4: 59K4676; Supplier 5: Mouser; Supplier Part Number 5: 584-AD7276BUJZ-500R7; RoHS: Y; Packing: Reel; Mounting Technology: Surface Mount; Code_JEDEC: MO-193-AA*; ComponentLink1Description: Manufacturer URL; ComponentLink1URL: http://www.analog.com/en/index.html; ComponentLink2Description: Datasheet; ComponentLink2URL: http://www.analog.com/static/imported-files/data_sheets/AD7276_7277_7278.pdf; ComponentLink3Description: Package Specification; ComponentLink3URL: http://www.analog.com/static/imported-files/packages/PKG_PDF/TSOT(UJ)/UJ_6.pdf; ComponentLink4Description: Product URL; ComponentLink4URL: http://www.analog.com/en/analog-to-digital-converters/ad-converters/ad7276/products/product.html
footprint UJ-6_N (SOT23, 6-Leads, Body 2.9x1.6mm, Pitch 0.95mm, Lead Span 2.8mm, IPC Medium Density)
footprint UJ-6_L (SOT23, 6-Leads, Body 2.9x1.6mm, Pitch 0.95mm, Lead Span 2.8mm, IPC High Density)
footprint UJ-6_M (SOT23, 6-Leads, Body 2.9x1.6mm, Pitch 0.95mm, Lead Span 2.8mm, IPC Low Density)
pins: 1 VDD (power) "Power Supply Input. The VDD range for the AD7276/AD7277/AD7278 is 2.35 V to 3.6 V.", 2 GND (power) "Analog Ground. Ground reference point for all circuitry on the AD7276/AD7277/AD7278. All analog input signals should be referred to this GND voltage.", 3 VIN (in) "Analog Input. Single-ended analog input channel. The input range is 0 V to VDD.", 4 SCLK (in) "Serial Clock. Logic input. SCLK provides the serial clock for accessing data from the part. This clock input is also used as the clock source for the conversion process of the AD7276/AD7277/AD7278.", 5 SDATA (hiz) "Data Out. Logic output. The conversion result from the AD7276/AD7277/AD7278 is provided on this output as a serial data stream. The bits are clocked out on the falling edge of the SCLK input. The data stream from the AD7276 (See Datasheet)", 6 ~{CS} (in) "Chip Select. Active low logic input. This input provides the dual function of initiating conversion on the AD7276/AD7277/AD7278 and framing the serial data transfer."

## AD7276BUJZ-REEL7
designator U?
Single 12-Bit Analog-to-Digital Converter with Serial, SPI Interface, 3MSPS, -40 to +125 degC, UJ-6, Pb-Free, Reel; Generic Part Number: AD7276; Manufacturer: Analog Devices; PartNumber: AD7276BUJZ-REEL7; Resolution (Bits): 12; Channels: 1; Throughput Rate (SPS): 3M; Interface: Ser, SPI; DatasheetVersion: Rev.C; PackageVersion: Dec-2004; PackageReference: UJ-6; PackageDescription: 6-Lead Thin Small Outline Transistor Package [TSOT]; Supplier 1: Digi-Key; Supplier Part Number 1: AD7276BUJZ-REEL7TR-ND; Supplier 2: Digi-Key; Supplier Part Number 2: AD7276BUJZ-REEL7CT-ND; Supplier 3: Digi-Key; Supplier Part Number 3: AD7276BUJZ-REEL7DKR-ND; Supplier 4: Newark; Supplier Part Number 4: 59K4675; Supplier 5: Mouser; Supplier Part Number 5: 584-AD7276BUJZ-R7; RoHS: Y; Packing: Reel; Mounting Technology: Surface Mount; Code_JEDEC: MO-193-AA*; ComponentLink1Description: Manufacturer URL; ComponentLink1URL: http://www.analog.com/en/index.html; ComponentLink2Description: Datasheet; ComponentLink2URL: http://www.analog.com/static/imported-files/data_sheets/AD7276_7277_7278.pdf; ComponentLink3Description: Package Specification; ComponentLink3URL: http://www.analog.com/static/imported-files/packages/PKG_PDF/TSOT(UJ)/UJ_6.pdf; ComponentLink4Description: Product URL; ComponentLink4URL: http://www.analog.com/en/analog-to-digital-converters/ad-converters/ad7276/products/product.html
footprint UJ-6_N (SOT23, 6-Leads, Body 2.9x1.6mm, Pitch 0.95mm, Lead Span 2.8mm, IPC Medium Density)
footprint UJ-6_L (SOT23, 6-Leads, Body 2.9x1.6mm, Pitch 0.95mm, Lead Span 2.8mm, IPC High Density)
footprint UJ-6_M (SOT23, 6-Leads, Body 2.9x1.6mm, Pitch 0.95mm, Lead Span 2.8mm, IPC Low Density)
pins: 1 VDD (power) "Power Supply Input. The VDD range for the AD7276/AD7277/AD7278 is 2.35 V to 3.6 V.", 2 GND (power) "Analog Ground. Ground reference point for all circuitry on the AD7276/AD7277/AD7278. All analog input signals should be referred to this GND voltage.", 3 VIN (in) "Analog Input. Single-ended analog input channel. The input range is 0 V to VDD.", 4 SCLK (in) "Serial Clock. Logic input. SCLK provides the serial clock for accessing data from the part. This clock input is also used as the clock source for the conversion process of the AD7276/AD7277/AD7278.", 5 SDATA (hiz) "Data Out. Logic output. The conversion result from the AD7276/AD7277/AD7278 is provided on this output as a serial data stream. The bits are clocked out on the falling edge of the SCLK input. The data stream from the AD7276 (See Datasheet)", 6 ~{CS} (in) "Chip Select. Active low logic input. This input provides the dual function of initiating conversion on the AD7276/AD7277/AD7278 and framing the serial data transfer."

## AD7276YUJZ-500RL7
designator U?
Single 12-Bit Analog-to-Digital Converter with Serial, SPI Interface, 3MSPS, -40 to +125 degC, UJ-6, Pb-Free, Reel; Generic Part Number: AD7276; Manufacturer: Analog Devices; PartNumber: AD7276YUJZ-500RL7; Resolution (Bits): 12; Channels: 1; Throughput Rate (SPS): 3M; Interface: Ser, SPI; DatasheetVersion: Rev.C; PackageVersion: Dec-2004; PackageReference: UJ-6; PackageDescription: 6-Lead Thin Small Outline Transistor Package [TSOT]; Supplier 1: Digi-Key; Supplier Part Number 1: AD7276YUJZ-500RL7TR-ND; Supplier 2: Digi-Key; Supplier Part Number 2: AD7276YUJZ-500RL7CT-ND; Supplier 3: Digi-Key; Supplier Part Number 3: AD7276YUJZ-500RL7DKR-ND; Supplier 4: Mouser; Supplier Part Number 4: 584-AD7276YUJZ-500R7; RoHS: Y; Packing: Reel; Mounting Technology: Surface Mount; Code_JEDEC: MO-193-AA*; ComponentLink1Description: Manufacturer URL; ComponentLink1URL: http://www.analog.com/en/index.html; ComponentLink2Description: Datasheet; ComponentLink2URL: http://www.analog.com/static/imported-files/data_sheets/AD7276_7277_7278.pdf; ComponentLink3Description: Package Specification; ComponentLink3URL: http://www.analog.com/static/imported-files/packages/PKG_PDF/TSOT(UJ)/UJ_6.pdf; ComponentLink4Description: Product URL; ComponentLink4URL: http://www.analog.com/en/analog-to-digital-converters/ad-converters/ad7276/products/product.html
footprint UJ-6_N (SOT23, 6-Leads, Body 2.9x1.6mm, Pitch 0.95mm, Lead Span 2.8mm, IPC Medium Density)
footprint UJ-6_L (SOT23, 6-Leads, Body 2.9x1.6mm, Pitch 0.95mm, Lead Span 2.8mm, IPC High Density)
footprint UJ-6_M (SOT23, 6-Leads, Body 2.9x1.6mm, Pitch 0.95mm, Lead Span 2.8mm, IPC Low Density)
pins: 1 VDD (power) "Power Supply Input. The VDD range for the AD7276/AD7277/AD7278 is 2.35 V to 3.6 V.", 2 GND (power) "Analog Ground. Ground reference point for all circuitry on the AD7276/AD7277/AD7278. All analog input signals should be referred to this GND voltage.", 3 VIN (in) "Analog Input. Single-ended analog input channel. The input range is 0 V to VDD.", 4 SCLK (in) "Serial Clock. Logic input. SCLK provides the serial clock for accessing data from the part. This clock input is also used as the clock source for the conversion process of the AD7276/AD7277/AD7278.", 5 SDATA (hiz) "Data Out. Logic output. The conversion result from the AD7276/AD7277/AD7278 is provided on this output as a serial data stream. The bits are clocked out on the falling edge of the SCLK input. The data stream from the AD7276 (See Datasheet)", 6 ~{CS} (in) "Chip Select. Active low logic input. This input provides the dual function of initiating conversion on the AD7276/AD7277/AD7278 and framing the serial data transfer."

## AD7276YUJZ-REEL7
designator U?
Single 12-Bit Analog-to-Digital Converter with Serial, SPI Interface, 3MSPS, -40 to +125 degC, UJ-6, Pb-Free, Reel; Generic Part Number: AD7276; Manufacturer: Analog Devices; PartNumber: AD7276YUJZ-REEL7; Resolution (Bits): 12; Channels: 1; Throughput Rate (SPS): 3M; Interface: Ser, SPI; DatasheetVersion: Rev.C; PackageVersion: Dec-2004; PackageReference: UJ-6; PackageDescription: 6-Lead Thin Small Outline Transistor Package [TSOT]; Supplier 1: Digi-Key; Supplier Part Number 1: AD7276YUJZ-REEL7TR-ND; Supplier 2: Digi-Key; Supplier Part Number 2: AD7276YUJZ-REEL7CT-ND; Supplier 3: Digi-Key; Supplier Part Number 3: AD7276YUJZ-REEL7DKR-ND; Supplier 4: Mouser; Supplier Part Number 4: 584-AD7276YUJZ-R7; RoHS: Y; Packing: Reel; Mounting Technology: Surface Mount; Code_JEDEC: MO-193-AA*; ComponentLink1Description: Manufacturer URL; ComponentLink1URL: http://www.analog.com/en/index.html; ComponentLink2Description: Datasheet; ComponentLink2URL: http://www.analog.com/static/imported-files/data_sheets/AD7276_7277_7278.pdf; ComponentLink3Description: Package Specification; ComponentLink3URL: http://www.analog.com/static/imported-files/packages/PKG_PDF/TSOT(UJ)/UJ_6.pdf; ComponentLink4Description: Product URL; ComponentLink4URL: http://www.analog.com/en/analog-to-digital-converters/ad-converters/ad7276/products/product.html
footprint UJ-6_N (SOT23, 6-Leads, Body 2.9x1.6mm, Pitch 0.95mm, Lead Span 2.8mm, IPC Medium Density)
footprint UJ-6_L (SOT23, 6-Leads, Body 2.9x1.6mm, Pitch 0.95mm, Lead Span 2.8mm, IPC High Density)
footprint UJ-6_M (SOT23, 6-Leads, Body 2.9x1.6mm, Pitch 0.95mm, Lead Span 2.8mm, IPC Low Density)
pins: 1 VDD (power) "Power Supply Input. The VDD range for the AD7276/AD7277/AD7278 is 2.35 V to 3.6 V.", 2 GND (power) "Analog Ground. Ground reference point for all circuitry on the AD7276/AD7277/AD7278. All analog input signals should be referred to this GND voltage.", 3 VIN (in) "Analog Input. Single-ended analog input channel. The input range is 0 V to VDD.", 4 SCLK (in) "Serial Clock. Logic input. SCLK provides the serial clock for accessing data from the part. This clock input is also used as the clock source for the conversion process of the AD7276/AD7277/AD7278.", 5 SDATA (hiz) "Data Out. Logic output. The conversion result from the AD7276/AD7277/AD7278 is provided on this output as a serial data stream. The bits are clocked out on the falling edge of the SCLK input. The data stream from the AD7276 (See Datasheet)", 6 ~{CS} (in) "Chip Select. Active low logic input. This input provides the dual function of initiating conversion on the AD7276/AD7277/AD7278 and framing the serial data transfer."

## AD7277ARMZ
designator U?
Single 10-Bit Analog-to-Digital Converter with Serial, SPI Interface, 3MSPS, -40 to +125 degC, RM-8, Pb-Free, Tube; Generic Part Number: AD7277; Manufacturer: Analog Devices; PartNumber: AD7277ARMZ; Resolution (Bits): 10; Channels: 1; Throughput Rate (SPS): 3M; Interface: Ser, SPI; DatasheetVersion: Rev.C; PackageVersion: Aug-2005; PackageReference: RM-8; PackageDescription: 8-Lead Mini Small Outline Package [MSOP]; Supplier 1: Digi-Key; Supplier Part Number 1: AD7277ARMZ-ND; Supplier 2: Mouser; Supplier Part Number 2: 584-AD7277ARMZ; RoHS: Y; Packing: Tube; Mounting Technology: Surface Mount; Code_JEDEC: MO-187-AA; ComponentLink1Description: Manufacturer URL; ComponentLink1URL: http://www.analog.com/en/index.html; ComponentLink2Description: Datasheet; ComponentLink2URL: http://www.analog.com/static/imported-files/data_sheets/AD7276_7277_7278.pdf; ComponentLink3Description: Package Specification; ComponentLink3URL: http://www.analog.com/static/imported-files/packages/PKG_PDF/MSOP%28RM%29/RM_8.pdf; ComponentLink4Description: Product URL; ComponentLink4URL: http://www.analog.com/en/analog-to-digital-converters/ad-converters/ad7277/products/product.html
footprint RM-8_N (TSOP, 8-Leads, Body 3x3mm, Pitch 0.65mm, IPC Medium Density)
footprint RM-8_L (TSOP, 8-Leads, Body 3x3mm, Pitch 0.65mm, IPC High Density)
footprint RM-8_M (TSOP, 8-Leads, Body 3x3mm, Pitch 0.65mm, IPC Low Density)
pins: 1 VDD (power) "Power Supply Input. The VDD range for the AD7276/AD7277/AD7278 is 2.35 V to 3.6 V.", 2 SDATA (hiz) "Data Out. Logic output. The conversion result from the AD7276/AD7277/AD7278 is provided on this output as a serial data stream. The bits are clocked out on the falling edge of the SCLK input. The data stream from the AD7276 (See Datasheet)", 3 ~{CS} (in) "Chip Select. Active low logic input. This input provides the dual function of initiating conversion on the AD7276/AD7277/AD7278 and framing the serial data transfer.", 4 NC "No Connect.", 5 NC "No Connect.", 6 SCLK (in) "Serial Clock. Logic input. SCLK provides the serial clock for accessing data from the part. This clock input is also used as the clock source for the conversion process of the AD7276/AD7277/AD7278.", 7 GND (power) "Analog Ground. Ground reference point for all circuitry on the AD7276/AD7277/AD7278. All analog input signals should be referred to this GND voltage.", 8 VIN (in) "Analog Input. Single-ended analog input channel. The input range is 0 V to VDD."